# Altium footprint library COOLCONTROL.PcbLib: 95 footprints (part 6 of 6)
Each footprint in its own frame and in the unit in brackets; x right, y up, seen from the top. Pads: shape width x height; smd on the part's side, far side on the other; paste and mask are expansions set on the pad; w line width, h text height; cw(c..) or ccw(c..) is an arc to the next point about the centre after c.
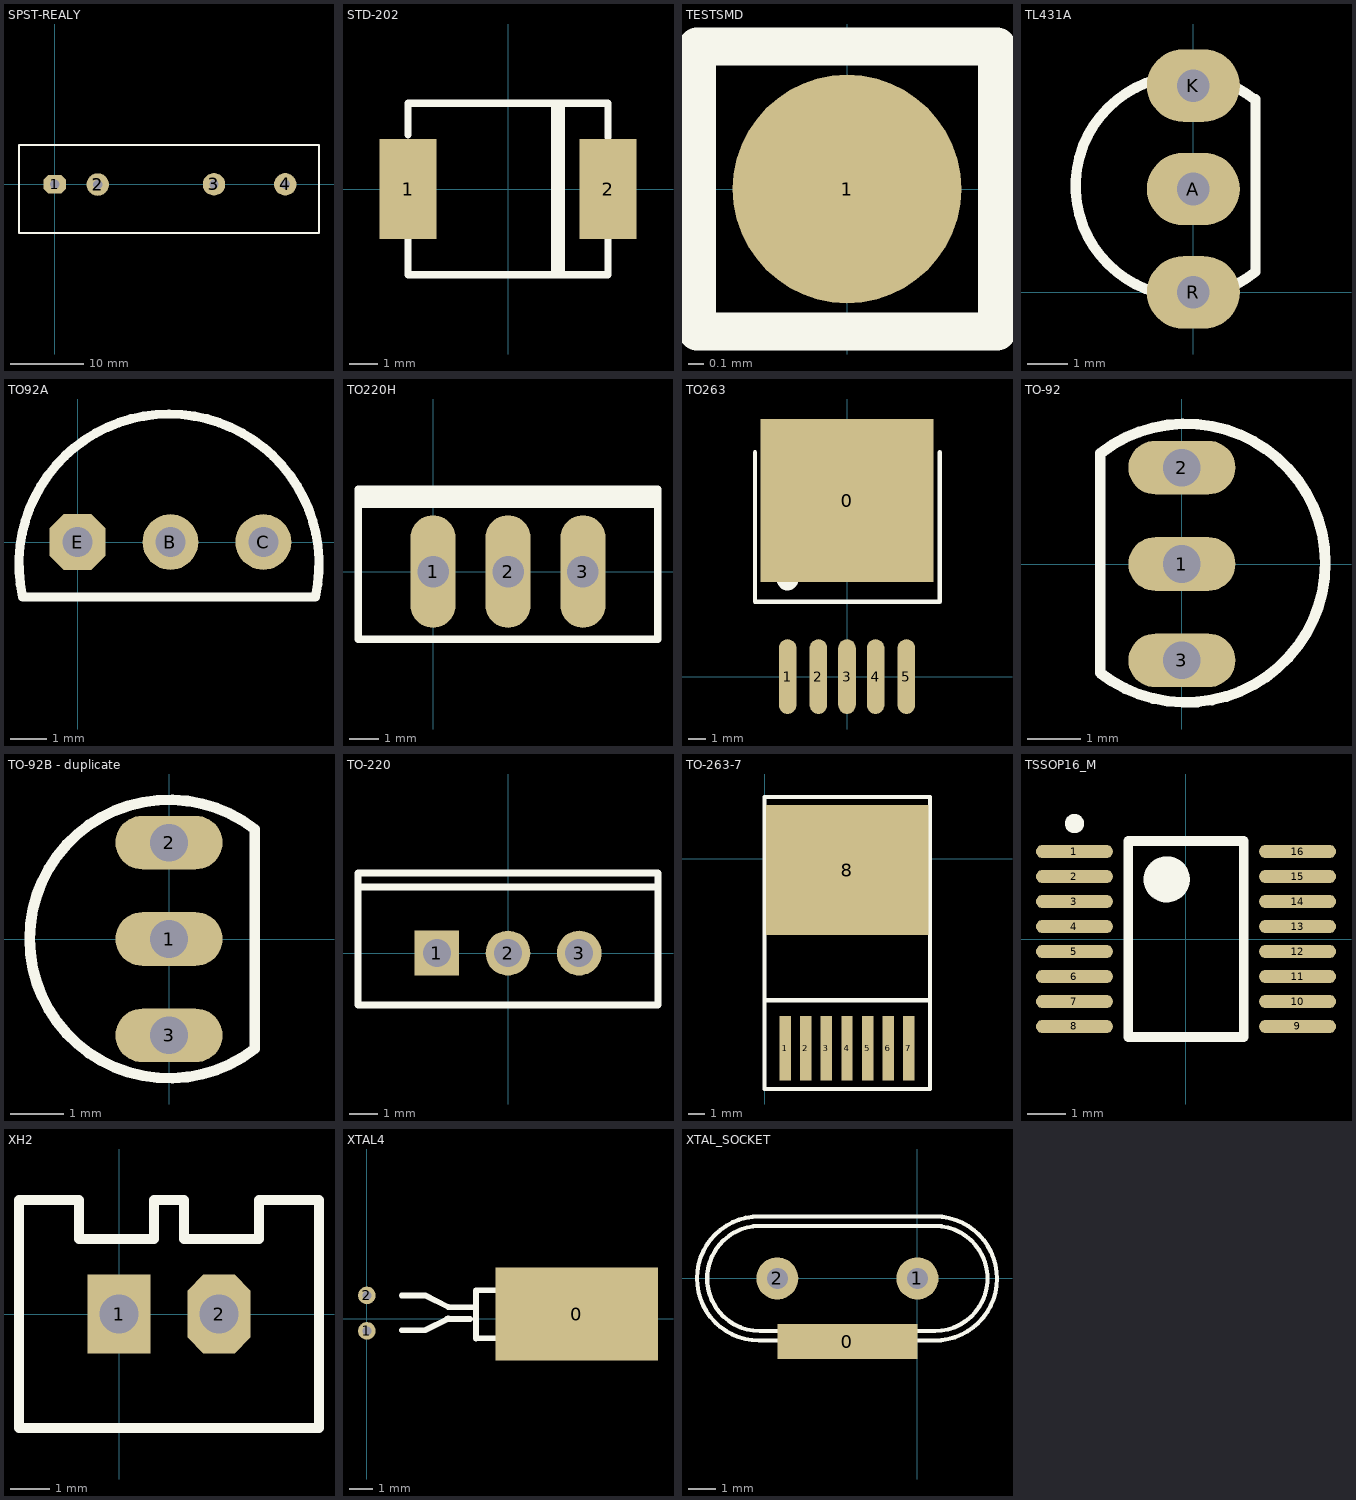
[diagram p5: the footprints below, top view; thin cyan lines are the x and y axes]

## SPST-REALY [mil]
pads (4):
  oct 120x100 hole 50: 1(0,0)
  round 120 hole 50: 2(230,-1) 3(850,0) 4(1230,0)
Top Overlay:
  lines w10: -190,-260 -190,210 1410,210 1410,-260 -190,-260

## STD-202 [mm]
pads (2):
  rect 2x3.5 smd: 1(-3.5,0) 2(3.5,0)
Top Overlay:
  rectangle: 1.5,-3 2,3
  lines w0.254: -3.5,-1.7 -3.5,-3 3.5,-3 3.5,-1.7 ; -3.5,1.9 -3.5,3 3.5,3 3.5,1.8

## TESTSMD [mil]
pads (1):
  round 60 smd: 1(0,0)
Top Overlay:
  lines w10: -39.37,-37.4 -39.37,37.4 39.37,37.4 39.37,-37.4 -39.37,-37.4

## TL431A [mil]
pads (3):
  oval 90x70 hole 31.5: A(0,100) K(0,200) R(0,0)
Top Overlay:
  lines w10: 60,185.79 ccw(c-7.13,102.89) 60,20 60,186.67

## TO92A [mil]
pads (3):
  round 60 hole 32: B(100,0) C(200,0)
  oct 60x60 hole 32: E(0,0)
Top Overlay:
  lines w10: -59.06,-59.05 cw(c98.43,-23.62) 255.91,-59.05 -59.05,-59.06

## TO220H [mil]
pads (3):
  oval 60x150 hole 42: 1(0,0.01) 2(100,0.01) 3(200,0.01)
Top Overlay:
  lines w10: -100,90.01 300,90.01 ; -100,100.01 300,100.01 ; -100,-89.99 300,-89.99 300,110.01 -100,110.01 -100,-89.99

## TO263 [mil]
pads (6):
  rect 393.7x370.08 smd: 0(0,400.01)
  oval 40x170 smd: 1(-135,0.01) 2(-65,0.01) 3(0,0.01) 4(65,0.01) 5(135,0.01)
Top Overlay:
  circle w24: c-135,220.01 r12
  lines w10: -209,510.01 -209,170.01 211,170.01 211,510.01

## TO-92 [mm] "TO, Flat Index; 3 In-Line, Axial Leads; Body Dia. 4.8mm; Leads 0.48 x 0.5 mm (max)"
height 5.33
pads (3):
  oval 2x1 hole 0.7: 1(0,0) 2(0,1.8) 3(0,-1.8)
Top Overlay:
  lines w0.2: -1.524,2.066 -1.524,-2.032 ccw(c0.077,0.017) -1.524,2.066
3D body: height 3, standoff 0, extent -0.25,-2.04 0.25,-1.6
3D body: height 3, standoff 0, extent -0.25,-0.22 0.25,0.22
3D body: height 3, standoff 0, extent -0.246,1.583 0.254,2.023
3D body: height 8, standoff 3, extent -1.528,-2.601 2.722,2.579

## TO-92B - duplicate [mm] "TO, Flat Index; 3 In-Line, Axial Leads; Body Dia. 4.8mm; Leads 0.48 x 0.5 mm (max)"
height 5.33
pads (3):
  oval 2x1 hole 0.7: 1(0,0) 2(0,1.8) 3(0,-1.8)
Top Overlay:
  lines w0.2: 1.601,-2.049 cw(c0,0) 1.601,2.049 ; 1.6,-1.99 1.6,1.99
3D body: height 3, standoff 0, extent -0.25,-2.04 0.25,-1.6
3D body: height 3, standoff 0, extent -0.25,-0.22 0.25,0.22
3D body: height 3, standoff 0, extent -0.246,1.583 0.254,2.023
3D body: height 8, standoff 3, extent -2.6,-2.59 1.65,2.59

## TO-220 [mm]
pads (3):
  rect 1.6x1.6 hole 1: 1(-2.54,0)
  round 1.6 hole 1: 2(0,0) 3(2.54,0)
Top Overlay:
  lines w0.254: -5.35,2.35 5.35,2.35 ; -5.35,-1.85 5.35,-1.85 5.35,2.85 -5.35,2.85 -5.35,-1.85

## TO-263-7 [mm]
pads (8):
  rect 0.7x4 smd: 1(1.27,-11.684) 2(2.54,-11.684) 3(3.81,-11.684) 4(5.08,-11.684) 5(6.35,-11.684) 6(7.62,-11.684) 7(8.89,-11.684)
  rect 10x8 smd: 8(5.1,-0.7)
Top Overlay:
  lines w0.254: 0.02,-8.728 10.18,-8.728 ; 0,-14.2 0,3.8 10.2,3.8 10.2,-14.2 0,-14.2

## TSSOP16_M [mm]
pads (16):
  oval 2x0.35 smd: 1(-2.9,2.275) 2(-2.9,1.625) 3(-2.9,0.975) 4(-2.9,0.325) 5(-2.9,-0.325) 6(-2.9,-0.975) 7(-2.9,-1.625) 8(-2.9,-2.275) 9(2.9,-2.275) 10(2.9,-1.625) 11(2.9,-0.975) 12(2.9,-0.325) 13(2.9,0.325) 14(2.9,0.975) 15(2.9,1.625) 16(2.9,2.275)
Top Overlay:
  circle w0.6: c-0.5,1.55 r0.3
  circle w0.25: c-2.9,3 r0.125
  lines w0.254: -1.5,-2.55 1.5,-2.55 1.5,2.55 -1.5,2.55 -1.5,-2.55

## XH2 [mm]
pads (2):
  rect 1.6x2 hole 1: 1(0,0)
  oct 1.6x2 hole 1: 2(2.54,0)
Top Overlay:
  lines w0.254: -2.54,-2.9 -2.54,2.9 -1.016,2.9 -1.016,1.905 0.889,1.905 0.889,2.9 1.651,2.9 1.651,1.905 3.556,1.905 3.556,2.9 5.08,2.9 5.08,-2.9 -2.54,-2.9

## XTAL4 [mil]
pads (3):
  rect 275.59x157.48 smd: 0(355.28,8.11)
  round 30 hole 15: 1(0,-20.39) 2(0,39.61)
Top Overlay:
  lines w10: 59.05,-19.45 98.74,-19.45 ; 59.05,39.61 98.74,39.61 ; 98.42,-19.45 137.79,0.24 ; 98.42,39.61 137.79,19.92 183.74,19.61 ; 135.31,-0.39 175,-0.39 ; 184.74,-33.39 184.74,47.61 420.74,48.61 420.74,-32.39 184.74,-33.39

## XTAL_SOCKET [mil]
pads (3):
  rect 200x50 smd: 0(-100,-90)
  round 60 hole 30: 1(0,0) 2(-200,0)
Top Overlay:
  lines w6: -226,-88.58 cw(c-226,0) -225.09,88.58 25,88.58 cw(c25,0) 24.07,-88.58 -226,-88.58 ; -225,-75 cw(c-225,0) -225,75 25,75 cw(c25,0) 25,-75 -225,-75